# Altium footprint library Sophisti.PCBLIB: 14 footprints
Each footprint in its own frame and in the unit in brackets; x right, y up, seen from the top. Pads: shape width x height; smd on the part's side, far side on the other; paste and mask are expansions set on the pad; w line width, h text height; cw(c..) or ccw(c..) is an arc to the next point about the centre after c.
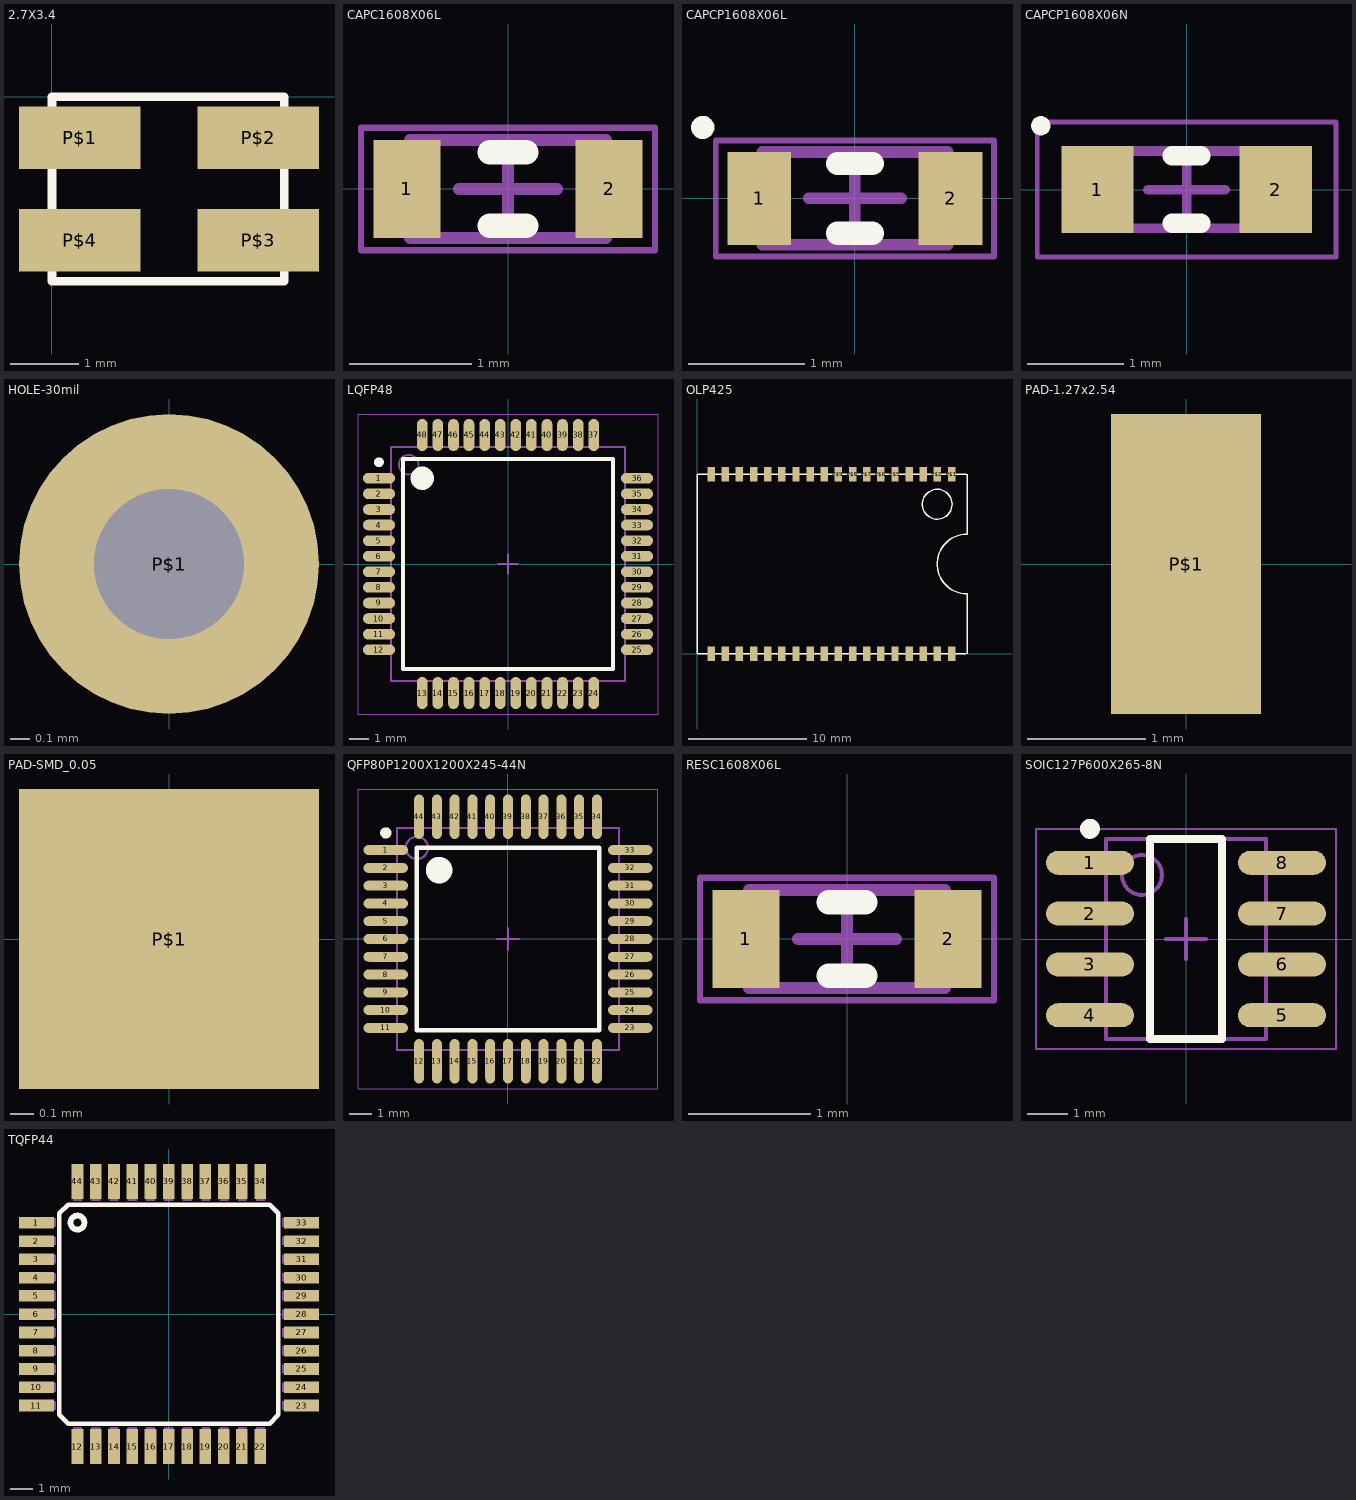
[diagram p0: the footprints below, top view; thin cyan lines are the x and y axes]

## 2.7X3.4 [mil]
pads (4):
  rect 70x36 smd: P$1(16,-23.62) P$2(119,-23.62) P$3(119,-82.68) P$4(16,-82.68)
Top Overlay:
  lines w5: 0,-106.3 134,-106.3 134,0 0,0 0,-106.3
3D body: height 39.37, standoff 0, extent 0,-105 135,0

## CAPC1608X06L [mm] "Chip Capacitor, 2-Leads, Body 1.60x0.80mm, IPC High Density"
height 0.6
pads (2):
  rect 0.55x0.8 smd: 1(-0.825,0) 2(0.825,0)
Top Overlay:
  lines w0.2: -0.15,-0.3 0.15,-0.3 ; -0.15,0.3 0.15,0.3
Mechanical 13:
  lines w0.1: -0.8,-0.4 0.8,-0.4 0.8,0.4 -0.8,0.4 -0.8,-0.4
Mechanical 15:
  lines w0.05: -1.2,-0.5 1.2,-0.5 1.2,0.5 -1.2,0.5 -1.2,-0.5
  lines w0.1: -0.4,0 0.4,0 ; 0,-0.4 0,0.4
3D body: height 0.6, standoff 0, extent 0.6,-0.4 0.8,0.4
3D body: height 0.6, standoff 0, extent -0.8,-0.4 -0.6,0.4
3D body: height 0.6, standoff 0, extent -0.6,-0.4 0.6,0.4

## CAPCP1608X06L [mm] "Chip Capacitor, 2-Leads, Body 1,60x0,80mm, IPC High Density"
height 0.6
pads (2):
  rect 0.55x0.8 smd: 1(-0.825,0) 2(0.825,0)
Top Overlay:
  circle w0.1: c-1.312,0.612 r0.05
  lines w0.2: -0.15,-0.3 0.15,-0.3 ; -0.15,0.3 0.15,0.3
Mechanical 13:
  lines w0.1: -0.8,-0.4 0.8,-0.4 0.8,0.4 -0.8,0.4 -0.8,-0.4
Mechanical 15:
  lines w0.05: -1.2,-0.5 1.2,-0.5 1.2,0.5 -1.2,0.5 -1.2,-0.5
  lines w0.1: -0.4,0 0.4,0 ; 0,-0.4 0,0.4
3D body: height 0.6, standoff 0, extent 0.6,-0.4 0.8,0.4
3D body: height 0.6, standoff 0, extent -0.8,-0.4 -0.6,0.4
3D body: height 0.6, standoff 0, extent -0.6,-0.4 0.6,0.4

## CAPCP1608X06N [mm] "Chip Capacitor, 2-Leads, Body 1.60x0.80mm, IPC Medium Density"
height 0.6
pads (2):
  rect 0.75x0.9 smd: 1(-0.925,0) 2(0.925,0)
Top Overlay:
  circle w0.1: c-1.512,0.662 r0.05
  lines w0.2: -0.15,-0.35 0.15,-0.35 ; -0.15,0.35 0.15,0.35
Mechanical 13:
  lines w0.1: -0.8,-0.4 -0.8,0.4 0.8,0.4 0.8,-0.4 -0.8,-0.4
Mechanical 15:
  lines w0.05: -1.55,-0.7 -1.55,0.7 1.55,0.7 1.55,-0.7 -1.55,-0.7
  lines w0.1: -0.4,0 0.4,0 ; 0,-0.4 0,0.4
3D body: height 0.6, standoff 0, extent -0.6,-0.4 0.6,0.4
3D body: height 0.6, standoff 0, extent -0.8,-0.4 -0.6,0.4
3D body: height 0.6, standoff 0, extent 0.6,-0.4 0.8,0.4

## HOLE-30mil [mil]
pads (1):
  round 60 hole 30: P$1(0,0)

## LQFP48 [mm] "LQFP, 48-Leads, Body 12,00x12,00mm, Pitch 0,80mm, IPC Medium Density"
height 1.6
pads (48):
  oval 1.65x0.55 smd: 1(-6.625,4.4) 2(-6.625,3.6) 3(-6.625,2.8) 4(-6.625,2) 5(-6.625,1.2) 6(-6.625,0.4) 7(-6.625,-0.4) 8(-6.625,-1.2) 9(-6.625,-2) 10(-6.625,-2.8) 11(-6.625,-3.6) 12(-6.625,-4.4) 25(6.625,-4.4) 26(6.625,-3.6) 27(6.625,-2.8) 28(6.625,-2) 29(6.625,-1.2) 30(6.625,-0.4) 31(6.625,0.4) 32(6.625,1.2) 33(6.625,2) 34(6.625,2.8) 35(6.625,3.6) 36(6.625,4.4)
  oval 0.55x1.65 smd: 13(-4.4,-6.625) 14(-3.6,-6.625) 15(-2.8,-6.625) 16(-2,-6.625) 17(-1.2,-6.625) 18(-0.4,-6.625) 19(0.4,-6.625) 20(1.2,-6.625) 21(2,-6.625) 22(2.8,-6.625) 23(3.6,-6.625) 24(4.4,-6.625) 37(4.4,6.625) 38(3.6,6.625) 39(2.8,6.625) 40(2,6.625) 41(1.2,6.625) 42(0.4,6.625) 43(-0.4,6.625) 44(-1.2,6.625) 45(-2,6.625) 46(-2.8,6.625) 47(-3.6,6.625) 48(-4.4,6.625)
Top Overlay:
  circle w0.25: c-6.625,5.225 r0.125
  circle w0.6: c-4.4,4.4 r0.3
  lines w0.2: -5.4,-5.4 -5.4,5.4 5.4,5.4 5.4,-5.4 -5.4,-5.4
Mechanical 13:
  circle w0.1: c-5.1,5.1 r0.5
  lines w0.1: -6,-6 -6,6 6,6 6,-6 -6,-6
Mechanical 15:
  lines w0.05: -7.7,-7.7 -7.7,7.7 7.7,7.7 7.7,-7.7 -7.7,-7.7
  lines w0.1: -0.5,0 0.5,0 ; 0,-0.5 0,0.5
3D body: height 1.6, standoff 0.15, extent -6,-6 6,6

## OLP425 [mil]
pads (36):
  rect 25x50 smd: GND0(331,0) GND1(756,600) P$1(851,600) P$2(804,600) P$5(662,600) P$6(615,600) P$7(567,600) P$8(520,600) P$9(473,600) P$10(426,600) P$11(378,600) P$12(331,600) P$13(284,600) P$14(237,600) P$15(189,600) P$16(142,600) P$17(95,600) P$18(48,600) P$19(48,0) P$20(95,0) P$21(142,0) P$22(189,0) P$23(237,0) P$24(284,0) P$26(378,0) P$28(473,0) P$29(520,0) P$30(567,0) P$31(615,0) P$32(662,0) P$33(709,0) P$34(756,0) P$35(804,0) P$36(851,0) VIN0(426,0) VIN1(709,600)
Top Overlay:
  circle w5: c803,500 r50
  lines w5: 898,0 0,0 0,600 900,600 ; 903,0 903,200 cw(c903,300) 903,400 903,600

## PAD-1.27x2.54 [mm]
pads (1):
  rect 1.27x2.54 smd: P$1(0,0)

## PAD-SMD_0.05 [mm]
pads (1):
  rect 1.27x1.27 smd: P$1(0,0)

## PCBComponent_1 [mm]

## QFP80P1200X1200X245-44N [mm] "QFP, 44-Leads, Body 10.00x10.00mm, Pitch 0.80mm, IPC Medium Density"
height 2.45
pads (44):
  oval 2x0.45 smd: 1(-5.5,4) 2(-5.5,3.2) 3(-5.5,2.4) 4(-5.5,1.6) 5(-5.5,0.8) 6(-5.5,0) 7(-5.5,-0.8) 8(-5.5,-1.6) 9(-5.5,-2.4) 10(-5.5,-3.2) 11(-5.5,-4) 23(5.5,-4) 24(5.5,-3.2) 25(5.5,-2.4) 26(5.5,-1.6) 27(5.5,-0.8) 28(5.5,0) 29(5.5,0.8) 30(5.5,1.6) 31(5.5,2.4) 32(5.5,3.2) 33(5.5,4)
  oval 0.45x2 smd: 12(-4,-5.5) 13(-3.2,-5.5) 14(-2.4,-5.5) 15(-1.6,-5.5) 16(-0.8,-5.5) 17(0,-5.5) 18(0.8,-5.5) 19(1.6,-5.5) 20(2.4,-5.5) 21(3.2,-5.5) 22(4,-5.5) 34(4,5.5) 35(3.2,5.5) 36(2.4,5.5) 37(1.6,5.5) 38(0.8,5.5) 39(0,5.5) 40(-0.8,5.5) 41(-1.6,5.5) 42(-2.4,5.5) 43(-3.2,5.5) 44(-4,5.5)
Top Overlay:
  circle w0.6: c-3.1,3.1 r0.3
  circle w0.25: c-5.5,4.775 r0.125
  lines w0.2: -4.1,-4.1 4.1,-4.1 4.1,4.1 -4.1,4.1 -4.1,-4.1
Mechanical 13:
  circle w0.1: c-4.1,4.1 r0.5
  lines w0.1: -5,-5 5,-5 5,5 -5,5 -5,-5
Mechanical 15:
  lines w0.05: -6.75,-6.75 6.75,-6.75 6.75,6.75 -6.75,6.75 -6.75,-6.75
  lines w0.1: -0.5,0 0.5,0 ; 0,-0.5 0,0.5
3D body: height 2.45, standoff 0.25, extent -5,-5 5,5

## RESC1608X06L [mm] "Chip Resistor, 2-Leads, Body 1.60x0.80mm, IPC High Density"
height 0.6
pads (2):
  rect 0.55x0.8 smd: 1(-0.825,0) 2(0.825,0)
Top Overlay:
  lines w0.2: -0.15,-0.3 0.15,-0.3 ; -0.15,0.3 0.15,0.3
Mechanical 13:
  lines w0.1: -0.8,-0.4 -0.8,0.4 0.8,0.4 0.8,-0.4 -0.8,-0.4
Mechanical 15:
  lines w0.05: -1.2,-0.5 -1.2,0.5 1.2,0.5 1.2,-0.5 -1.2,-0.5
  lines w0.1: -0.4,0 0.4,0 ; 0,-0.4 0,0.4
3D body: height 0.6, standoff 0, extent -0.6,-0.4 0.6,0.4
3D body: height 0.6, standoff 0, extent -0.8,-0.4 -0.6,0.4
3D body: height 0.6, standoff 0, extent 0.6,-0.4 0.8,0.4

## SOIC127P600X265-8N [mm] "SOIC, 8-Leads, Body 4.90x3.90mm, Pitch 1.27mm, IPC Medium Density"
height 2.65
pads (8):
  oval 2.2x0.6 smd: 1(-2.4,1.905) 2(-2.4,0.635) 3(-2.4,-0.635) 4(-2.4,-1.905) 5(2.4,-1.905) 6(2.4,-0.635) 7(2.4,0.635) 8(2.4,1.905)
Top Overlay:
  circle w0.25: c-2.4,2.755 r0.125
  lines w0.2: -0.9,-2.5 0.9,-2.5 0.9,2.5 -0.9,2.5 -0.9,-2.5
Mechanical 13:
  circle w0.1: c-1.1,1.6 r0.5
  lines w0.1: -2,-2.5 2,-2.5 2,2.5 -2,2.5 -2,-2.5
Mechanical 15:
  lines w0.05: -3.75,-2.75 3.75,-2.75 3.75,2.75 -3.75,2.75 -3.75,-2.75
  lines w0.1: -0.5,0 0.5,0 ; 0,-0.5 0,0.5
3D body: height 2.65, standoff 0.1, extent -2,-2.5 2,2.5

## TQFP44 [mil]
pads (44):
  rect 60x20 smd: 1(-228.35,158) 2(-228.35,126) 3(-228.35,95) 4(-228.35,63) 5(-228.35,32) 6(-228.35,0) 7(-228.35,-31.5) 8(-228.35,-62.99) 9(-228.35,-94.49) 10(-228.35,-125.98) 11(-228.35,-157.48) 23(229,-157.48) 24(229,-125.98) 25(229,-94.49) 26(229,-62.99) 27(229,-31.5) 28(229,0) 29(229,32) 30(229,63) 31(229,95) 32(229,126) 33(229,158)
  rect 20x60 smd: 12(-157.48,-228.35) 13(-125.98,-228.35) 14(-94.49,-228.35) 15(-62.99,-228.35) 16(-31.5,-228.35) 17(0,-228.35) 18(32,-228.35) 19(63,-228.35) 20(95,-228.35) 21(126,-228.35) 22(158,-228.35) 34(158,229) 35(126,229) 36(95,229) 37(63,229) 38(32,229) 39(0,229) 40(-31.5,229) 41(-62.99,229) 42(-94.49,229) 43(-125.98,229) 44(-157.48,229)
Top Overlay:
  circle w10: c-157.48,158 r12
  lines w8: -188.98,-173.23 -188.98,174 -173.23,189 174,189 189,174 189,-173.23 174,-188.98 -173.23,-188.98 -188.98,-173.23
Mechanical 16:
  rectangle: -165.35,195 -149.61,241
  rectangle: -133.86,195 -118.11,241
  rectangle: -102.36,195 -86.61,241
  rectangle: -70.87,195 -55.12,241
  rectangle: -39.37,195 -23.62,241
  rectangle: -7.87,195 8,241
  rectangle: 24,195 40,241
  rectangle: 56,195 71,241
  rectangle: 87,195 103,241
  rectangle: 119,195 134,241
  rectangle: 150,195 166,241
  rectangle: 195,150 241,166
  rectangle: 195,119 241,134
  rectangle: 195,87 241,103
  rectangle: 195,56 241,71
  rectangle: 195,24 241,40
  rectangle: 195,-7.87 241,8
  rectangle: 195,-39.37 241,-23.62
  rectangle: 195,-70.87 241,-55.12
  rectangle: 195,-102.36 241,-86.61
  rectangle: 195,-133.86 241,-118.11
  rectangle: 195,-165.35 241,-149.61
  rectangle: 150,-240.16 166,-194.88
  rectangle: 119,-240.16 134,-194.88
  rectangle: 87,-240.16 103,-194.88
  rectangle: 56,-240.16 71,-194.88
  rectangle: 24,-240.16 40,-194.88
  rectangle: -7.87,-240.16 8,-194.88
  rectangle: -39.37,-240.16 -23.62,-194.88
  rectangle: -70.87,-240.16 -55.12,-194.88
  rectangle: -102.36,-240.16 -86.61,-194.88
  rectangle: -133.86,-240.16 -118.11,-194.88
  rectangle: -165.35,-240.16 -149.61,-194.88
  rectangle: -240.16,-165.35 -194.88,-149.61
  rectangle: -240.16,-133.86 -194.88,-118.11
  rectangle: -240.16,-102.36 -194.88,-86.61
  rectangle: -240.16,-70.87 -194.88,-55.12
  rectangle: -240.16,-39.37 -194.88,-23.62
  rectangle: -240.16,-7.87 -194.88,8
  rectangle: -240.16,24 -194.88,40
  rectangle: -240.16,56 -194.88,71
  rectangle: -240.16,87 -194.88,103
  rectangle: -240.16,119 -194.88,134
  rectangle: -240.16,150 -194.88,166